# Altium schematic symbol library OPA2836.SchLib: 1 symbol
Pins are listed as number, name and electrical type; pins without a type are passive.

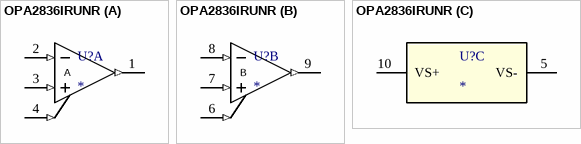
[diagram p0: symbol OPA2836IRUNR]

## OPA2836IRUNR
designator U?
Dual, Very Low Power, Rail to Rail out, Negative Rail in, VFB Op Amp, 205MHz BW, 120 MHz GBW; Manufacturer: Texas Instruments; PartNumber: OPA2836IRUNR; RefDes: RefDes; Type: DEV; Value: Value; Copyright: Copyright (C) 2018 Accelerated Designs. All rights reserved; ComponentLink1Description: Product Page; ComponentLink1URL: https://www.ti.com/product/OPA2836
footprint RUN0010A
part A pins: 1 VOUT1 (out), 2 IN- (in), 3 IN+ (in), 4 PD1_N (in)
part B pins: 6 PD2_N (in), 7 IN+ (in), 8 IN- (in), 9 VOUT2 (out)
part C pins: 5 VS- (power), 10 VS+ (power)
part A text: A
part B text: B